# Altium footprint library WM7622CT-ND.PcbLib: 1 footprints
Each footprint in its own frame and in the unit in brackets; x right, y up, seen from the top. Pads: shape width x height; smd on the part's side, far side on the other; paste and mask are expansions set on the pad; w line width, h text height; cw(c..) or ccw(c..) is an arc to the next point about the centre after c.
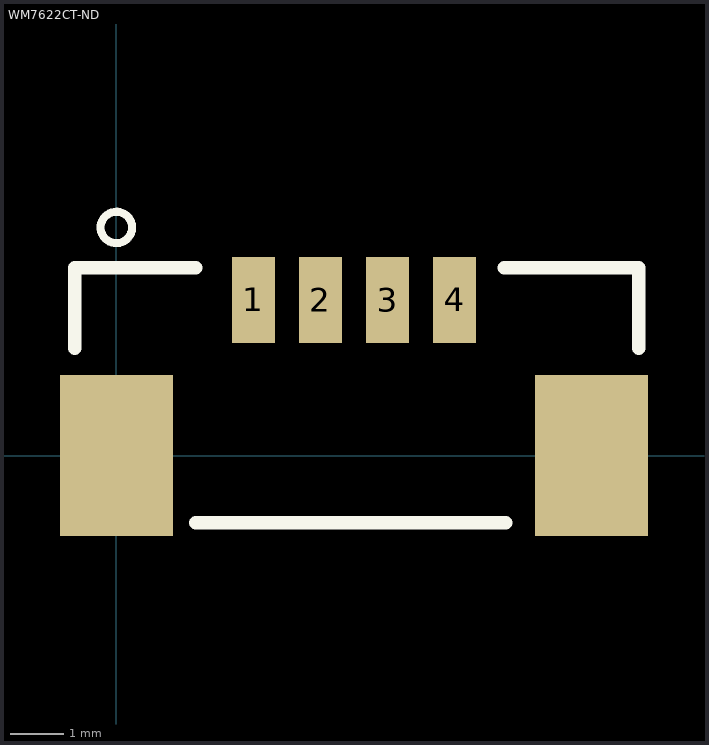
[diagram p0: the footprint, top view; thin cyan lines are the x and y axes]

## WM7622CT-ND [mm] "Molex 4-Pos PicoBlade 53261"
height 3.2
pads (6):
  rect 0.8x1.6 smd: 1(2.55,2.9) 2(3.8,2.9) 3(5.05,2.9) 4(6.3,2.9)
  rect 2.1x3 smd: ""(0,0) ""(8.85,0)
Top Overlay:
  circle w0.15: c0,4.25 r0.293
  lines w0.254: -0.775,2 -0.775,3.5 1.475,3.5 ; 1.475,-1.25 7.25,-1.25 ; 7.225,3.5 9.725,3.5 9.725,2
3D body "[PicoBlade 4 Pos] 532610471.stp": height 3.4, standoff 0, extent -0.63,-1.771 9.52,3.429